# Altium schematic symbol library freescale.SCHLIB: 27 symbols
Pins are listed as number, name and electrical type; pins without a type are passive.

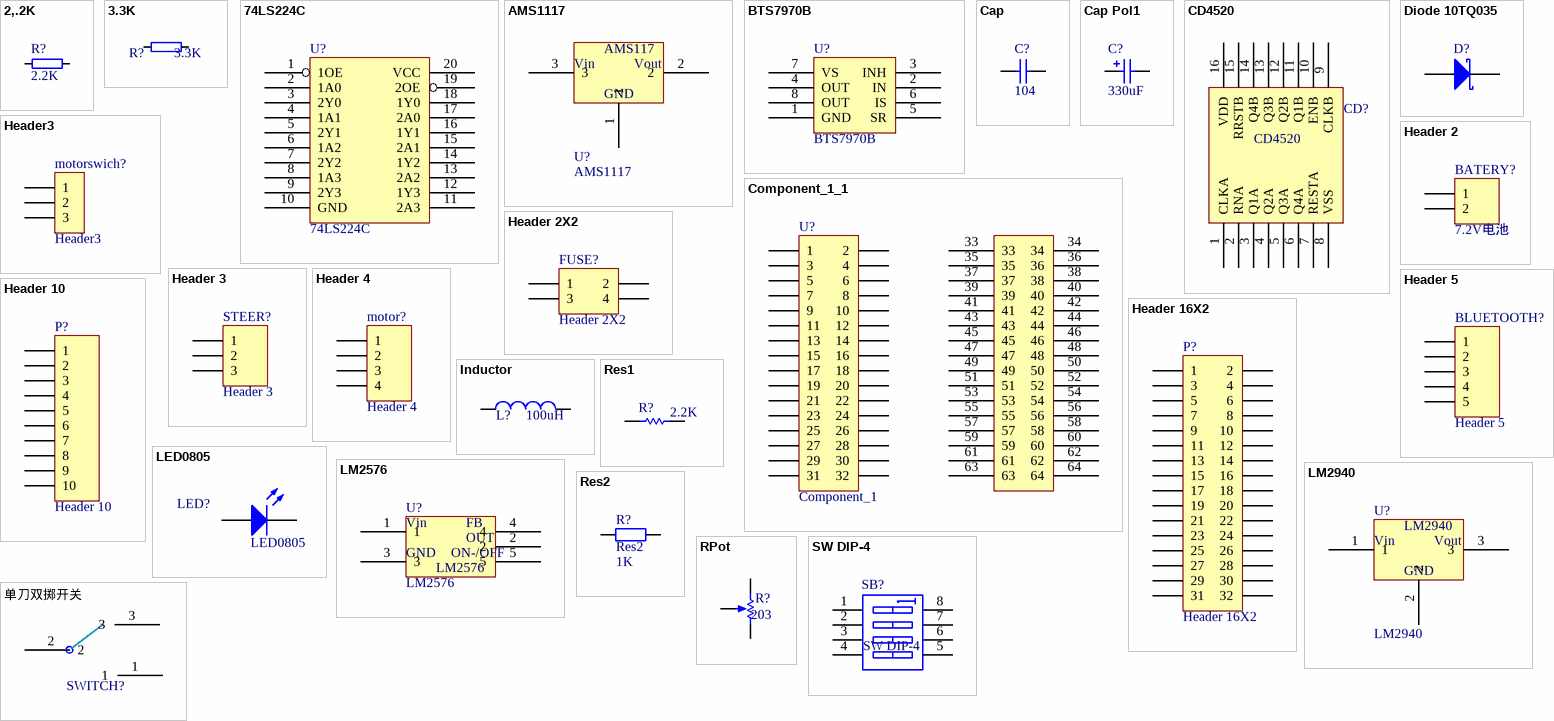
[diagram p0: symbols 2,.2K to 单刀双掷开关]

## 2,.2K
designator R?, comment 2.2K
footprint PCBComponent_1
pins: 1, 2

## 3.3K
designator R?
footprint 3.3K (Footprint not found)
footprint PCBComponent_1
pins: 1, 2

## 74LS224C
designator U?
footprint PCBComponent_1
pins: 1 1OE, 2 1A0, 3 2Y0, 4 1A1, 5 2Y1, 6 1A2, 7 2Y2, 8 1A3, 9 2Y3, 10 GND, 11 2A3, 12 1Y3, 13 2A2, 14 1Y2, 15 2A1, 16 1Y1, 17 2A0, 18 1Y0, 19 2OE, 20 VCC

## AMS1117
designator U?
footprint PCBComponent_1
pins: 1, 2, 3
text: AMS117; Vin; Vout; GND

## BTS7970B
designator U?
驱动
footprint BTS7960
footprint PCBComponent_1
pins: 1 GND, 2 IN, 3 INH, 4 OUT, 5 SR, 6 IS, 7 VS, 8 OUT

## Cap
designator C?  value 104
Capacitor; Published: 8-Jun-2000; LatestRevisionDate: 17-Jul-2002; LatestRevisionNote: Re-released for DXP Platform.; PackageReference: RAD-0.3; Publisher: Altium Limited
footprint RAD-0.3 (Capacitor; 2 Leads)
footprint VP32-3.2 (Capacitor, Ceramic, Thru-Hole, Dipped Radial; Body 5.1 x 3.2 mm (WxT) Pin Spacing 2.54 mm (typ))
footprint VP45-3.2 (Capacitor, Ceramic, Thru-Hole, Dipped Radial; Body 7.8 x 3.2 mm (WxT) Pin Spacing 5.08 mm (typ))
simulation model CAP (Capacitor)
signal-integrity model Cap
footprint PCBComponent_1
pins: 1, 2

## Cap Pol1
designator C?  value 330uF
Polarized Capacitor (Radial); Published: 8-Jun-2000; LatestRevisionDate: 17-Jul-2002; LatestRevisionNote: Re-released for DXP Platform.; PackageReference: RB7.6-15; Publisher: Altium Limited
footprint RB7.6-15 (Polarized Capacitor (Radial); 2 Leads)
footprint HA-C1 (Capacitor, Radial, Tantalum; Body 1.7 x 2.8 mm (Dia.xH max); Pin Spacing 1.27 mm (typ))
footprint A (Capacitor, Electrolytic, Radial; Body 4 x 5 mm (Dia.xH typ); Pin Spacing 1.5 mm (typ))
footprint B (Capacitor, Electrolytic, Radial; Body 5 x 6.8 mm (Dia.xH typ); Pin Spacing 2 mm (typ))
footprint CAPPR5-5x5 (Capacitor, Electrolytic, Radial; Body 5 x 5 mm (Dia.xH typ); Pin Spacing 5 mm (typ))
footprint CAPPR7.5-16x35 (Capacitor, Electrolytic, Radial; Body 16 x 35 mm (Dia.xH typ); Pin Spacing 7.5 mm (typ))
simulation model CAP (Capacitor)
signal-integrity model Cap Pol ([Unknown model type, plugin missing])
footprint PCBComponent_1
pins: 1, 2
1 alternate drawing of the same symbol

## CD4520
designator CD?  (value not drawn)
footprint PCBComponent_1
pins: 1 CLKA, 2 RNA, 3 Q1A, 4 Q2A, 5 Q3A, 6 Q4A, 7 RESTA, 8 VSS, 9 CLKB, 10 ENB, 11 Q1B, 12 Q2B, 13 Q3B, 14 Q4B, 15 RRSTB, 16 VDD

## Component_1_1
designator U?, comment Component_1
footprint PCBComponent_1
pins: 1, 2, 3, 4, 5, 6, 7, 8, 9, 10, 11, 12, 13, 14, 15, 16, 17, 18, 19, 20, 21, 22, 23, 24, 25, 26, 27, 28, 29, 30, 31, 32, 33, 34, 35, 36, 37, 38, 39, 40, 41, 42, 43, 44, 45, 46, 47, 48, 49, 50, 51, 52, 53, 54, 55, 56, 57, 58, 59, 60, 61, 62, 63, 64

## Diode 10TQ035
designator D?
Schottky Rectifier; Note: Terminal 2 is the TAB and is electrically connected to the cathode; Published: 8-Jun-2000; LatestRevisionDate: 17-Jul-2002; LatestRevisionNote: Re-released for DXP Platform.; DatasheetDocument: PD-2.057B; PackageDocument: Feb-1998; PackageReference: TO-220AC; Publisher: Altium Limited; ComponentLink1Description: Manufacturer Link; ComponentLink1URL: http://www.irf.com/; ComponentLink2Description: Datasheet; ComponentLink2URL: http://www.irf.com/product-info/datasheets/data/10tq.pdf
footprint PCBComponent_1
simulation model 10TQ035 (DIODE)
pins: 1 K, 2 A

## Header3
designator motorswich?
footprint Header3 (Footprint not found)
footprint PCBComponent_1
pins: 1, 2, 3

## Header 2
designator BATERY?, comment 7.2V电池
Header, 2-Pin; LatestRevisionDate: 17-Jul-2002; LatestRevisionNote: Re-released for DXP Platform.; Publisher: Altium Limited
footprint PCBComponent_1
signal-integrity model Connector
pins: 1, 2

## Header 2X2
designator FUSE?
Header, 2-Pin, Dual row; LatestRevisionDate: 17-Jul-2002; LatestRevisionNote: Re-released for DXP Platform.; Publisher: Altium Limited
footprint PCBComponent_1
signal-integrity model Connector
pins: 1, 2, 3, 4

## Header 3
designator STEER?
Header, 3-Pin; LatestRevisionDate: 17-Jul-2002; LatestRevisionNote: Re-released for DXP Platform.; Publisher: Altium Limited
footprint HDR1X3 (Connector; Header; 3 Position)
signal-integrity model Connector
pins: 1, 2, 3

## Header 4
designator motor?
Header, 4-Pin; LatestRevisionDate: 17-Jul-2002; LatestRevisionNote: Re-released for DXP Platform.; Publisher: Altium Limited
footprint PCBComponent_1
signal-integrity model Connector
pins: 1, 2, 3, 4

## Header 5
designator BLUETOOTH?
Header, 5-Pin; LatestRevisionDate: 17-Jul-2002; LatestRevisionNote: Re-released for DXP Platform.; Publisher: Altium Limited
footprint HDR1X5 (Connector; Header; 5 Position)
signal-integrity model Connector
pins: 1, 2, 3, 4, 5

## Header 10
designator P?
Header, 10-Pin; LatestRevisionDate: 17-Jul-2002; LatestRevisionNote: Re-released for DXP Platform.; Publisher: Altium Limited
footprint HDR1X10 (Connector; Header; 10 Position)
signal-integrity model Connector
pins: 1, 2, 3, 4, 5, 6, 7, 8, 9, 10

## Header 16X2
designator P?
Header, 16-Pin, Dual row; LatestRevisionDate: 17-Jul-2002; LatestRevisionNote: Re-released for DXP Platform.; Publisher: Altium Limited
footprint PCBComponent_1
signal-integrity model Connector
pins: 1, 2, 3, 4, 5, 6, 7, 8, 9, 10, 11, 12, 13, 14, 15, 16, 17, 18, 19, 20, 21, 22, 23, 24, 25, 26, 27, 28, 29, 30, 31, 32

## Inductor
designator L?  value 100uH
Inductor; Code_IEC: 1005; Published: 8-Jun-2000; LatestRevisionDate: 17-Jul-2002; LatestRevisionNote: Re-released for DXP Platform.; PackageReference: 0402-A; Publisher: Altium Limited; Code_JEITA: 0402
footprint PCBComponent_1
footprint L0603 (Chip Inductor; Body 1.6 x 0.8 mm (LxW typ))
footprint 2012_Chip (2012 Chip; Chip Inductor; Body 2.0 x 1.2 mm (LxW typ))
footprint 2029 (Chip Inductor; Body 2 x 1.2 mm (LxW typ))
footprint 3261 (3216 Chip; Chip Inductor; Body 3.2 x 1.6 mm (LxW typ))
footprint 4564_Chip (4564 Chip; Chip Inductor; Body 4.5 x 6.4 mm (LxW typ))
simulation model INDUCTOR (Inductor)
signal-integrity model Inductor
pins: 1, 2

## LED0805
designator LED?
footprint PCBComponent_1
pins: 1 A, 2 K

## LM2576
designator U?
footprint PCBComponent_1
pins: 1, 2, 3, 4, 5
text: Vin; FB; OUT; GND; ON-/OFF

## LM2940
designator U?
footprint PCBComponent_1
pins: 1, 2, 3
text: Vin; Vout; GND

## Res1
designator R?  value 2.2K
Resistor; Published: 8-Jun-2000; LatestRevisionDate: 17-Jul-2002; LatestRevisionNote: Re-released for DXP Platform.; PackageReference: AXIAL-0.3; Publisher: Altium Limited
footprint AXIAL-0.3 (Resistor; 2 Leads)
simulation model RESISTOR (Resistor)
signal-integrity model Res
footprint PCBComponent_1
pins: 1, 2

## Res2
designator R?  value 1K
Resistor; Published: 8-Jun-2000; LatestRevisionDate: 17-Jul-2002; LatestRevisionNote: Re-released for DXP Platform.; PackageReference: AXIAL-0.4; Publisher: Altium Limited; PackageDescription: Axial Device, Thru-Hole; 2 Leads; 0.4 in Pin Spacing
footprint PCBComponent_1
simulation model RESISTOR (Resistor)
signal-integrity model Res
pins: 1, 2

## RPot
designator R?  value 203
Potentiometer; Sim Note: Enter the Resistance value and the set point into parameter fields.; Set Position: 0.5; Published: 8-Jun-2000; LatestRevisionDate: 17-Jul-2002; LatestRevisionNote: Re-released for DXP Platform.; PackageReference: VR5; Publisher: Altium Limited
footprint PCBComponent_1
simulation model POT (Potentiometer)
pins: 1 TOP, 2 BOT, 3 TAP
1 alternate drawing of the same symbol

## SW DIP-4
designator SB?
DIP Switch, 4 Position, SPST; Published: 24-Mar-1999; LatestRevisionDate: 29-May-2009; LatestRevisionNote: IPC-7351 Footprint Added.; PackageVersion: Dec-2002; PackageReference: SO8; Publisher: Altium Limited; PackageDescription: 8-Pin Small Outline Integrated Circuit 1.27 mm Pitch; Code_JEDEC: MS-012-AA; Code_IPC: SOIC127P600-8
footprint SO8_N (SOIC, 8-Leads, Body 4.9x3.9mm, Pitch 1.27mm, IPC Medium Density)
footprint SO8_L (SOIC, 8-Leads, Body 4.9x3.9mm, Pitch 1.27mm, IPC High Density)
footprint SO8_M (SOIC, 8-Leads, Body 4.9x3.9mm, Pitch 1.27mm, IPC Low Density)
simulation model dpsw4 (Spice Subcircuit)
footprint PCBComponent_1
pins: 1 A1, 2 A2, 3 A3, 4 A4, 5 B4, 6 B3, 7 B2, 8 B1

## 单刀双掷开关
designator SWITCH?  (value not drawn)
footprint 单刀双掷开关 (Footprint not found)
footprint PCBComponent_1
pins: 1, 2, 3